# Altium footprint library R1210.PcbLib: 1 footprints
Each footprint in its own frame and in the unit in brackets; x right, y up, seen from the top. Pads: shape width x height; smd on the part's side, far side on the other; paste and mask are expansions set on the pad; w line width, h text height; cw(c..) or ccw(c..) is an arc to the next point about the centre after c.
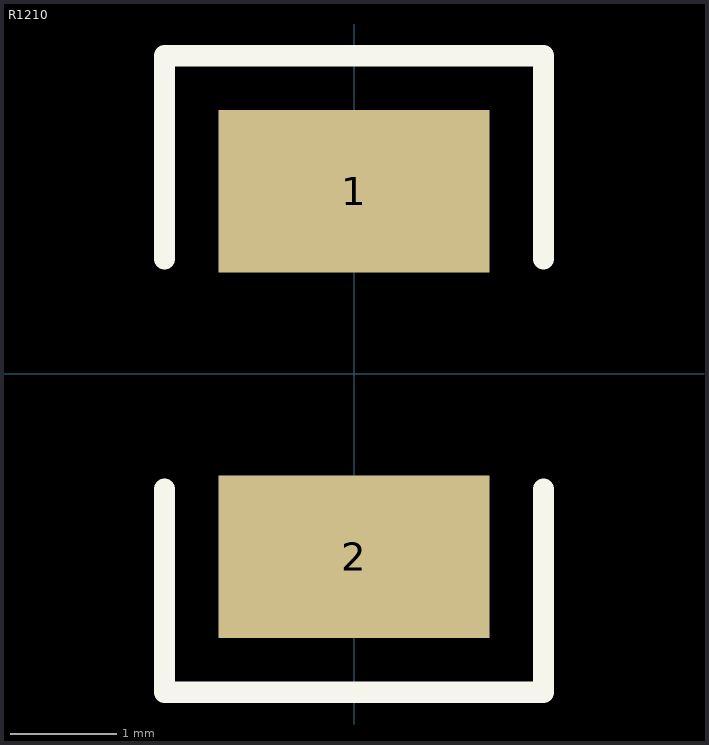
[diagram p0: the footprint, top view; thin cyan lines are the x and y axes]

## R1210 [mil]
pads (2):
  rect 100x60 smd: 1(0,67.5) 2(0,-67.5)
Top Overlay:
  lines w7.87: -70,-42.5 -70,-117.5 70,-117.5 70,-42.5 ; -70,42.5 -70,117.5 70,117.5 70,42.5
3D body: height 11.81, standoff -11.81, extent -48.43,-62.99 50,62.99